# Altium schematic symbol library HC_49S_Crystal.SchLib: 1 symbol
Pins are listed as number, name and electrical type; pins without a type are passive.

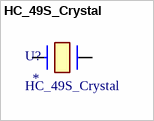
[diagram p0: symbol HC_49S_Crystal]

## HC_49S_Crystal
designator U?
HC-49S-SMD Crystals ROHS; LCSC: *
footprint HC_49S_Crystal
pins: 1, 2